# EAGLE library part SL508/12/ (library wolfi)
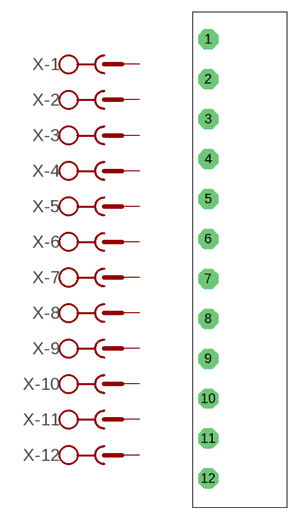
[diagram p6: symbol with the pads of SL508/12/90; footprint SL508/12/90]

Designator prefix X; gates -1=SK+ -2=SK+ -3=SK+ -4=SK+ -5=SK+ -6=SK+ -7=SK+ -8=SK+ -9=SK+ -10=SK+ -11=SK+ -12=SK+

## SL508/12/90  [SL508/12/90]
1  -1:SK  pas
2  -2:SK  pas
3  -3:SK  pas
4  -4:SK  pas
5  -5:SK  pas
6  -6:SK  pas
7  -7:SK  pas
8  -8:SK  pas
9  -9:SK  pas
10  -10:SK  pas
11  -11:SK  pas
12  -12:SK  pas

## Footprint SL508/12/90 (pad centres in mm)
drill 1.27 pad 2.54 octagon: 1 0,0; 2 0,-5.08; 3 0,-10.16; 4 0,-15.24; 5 0,-20.32; 6 0,-25.4; 7 0,-30.48; 8 0,-35.56; 9 0,-40.64; 10 0,-45.72; 11 0,-50.8; 12 0,-55.88